# Altium integrated library I6A4W020A033V-001-R.IntLib: 1 symbol
Pins are listed as number, name and electrical type; pins without a type are passive.

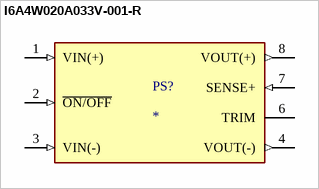
[diagram p0: symbol I6A4W020A033V-001-R]

## I6A4W020A033V-001-R
designator PS?
Non-Isolated PoL Module DC DC Converter 1 Output 3.3 ~ 15V 20A 9V - 53V Input; MP: I6A4W020A033V-001-R; MF: TDK-Lambda Americas; Availability: In Stock; Price: None; Package: DIP-8 TDK-Lambda; Value: *; SnapEDA_Link: https://www.snapeda.com/parts/I6A4W020A033V-001-R/TDK-Lambda%20Americas%20Inc./view-part/1737324/?ref=snap; Check_prices: https://www.snapeda.com/parts/I6A4W020A033V-001-R/TDK-Lambda%20Americas%20Inc./view-part/1737324/?ref=eda; Purchase-URL: https://pricing.snapeda.com/search/part/I6A4W020A033V-001-R/?ref=eda
footprint CONV_I6A4W020A033V-001-R
pins: 1 VIN(+) (in), 2 ~{ON/OFF} (in), 3 VIN(-) (in), 4 VOUT(-) (out), 6 TRIM, 7 SENSE+ (in), 8 VOUT(+) (out)